# Altium schematic symbol library SCH - RTC - MICRO CRYSTAL RV3129.SCHLIB: 1 symbol
Pins are listed as number, name and electrical type; pins without a type are passive.

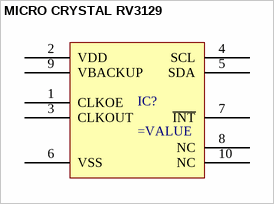
[diagram p0: symbol MICRO CRYSTAL RV3129]

## MICRO CRYSTAL RV3129
designator IC?
pins: 1 CLKOE, 2 VDD, 3 CLKOUT, 4 SCL, 5 SDA, 6 VSS, 7 ~{INT}, 8 NC, 9 VBACKUP, 10 NC